# EAGLE library part SN74LS641-1 (library capstuff)
Octual Bus Trans.
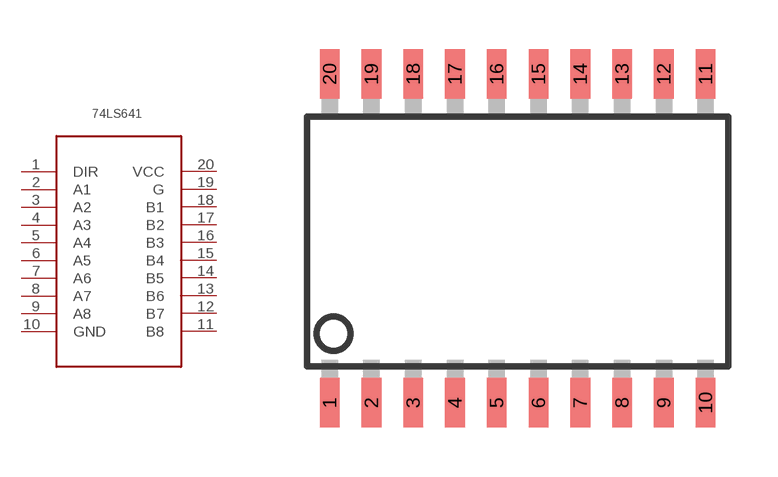
[diagram p0: symbol with the pads of SOIC20S; footprint SOIC20S]

Designator prefix U

## SN74LS641-1SC  [SOIC20S]
1  DIR
2  A1
3  A2
4  A3
5  A4
6  A5
7  A6
8  A7
9  A8
10  GND  pwr
11  B8
12  B7
13  B6
14  B5
15  B4
16  B3
17  B2
18  B1
19  G
20  VCC  pwr

## Footprint SOIC20S (pad centres in mm)
Wide Plastic Gull Wing Small Outline Package
smd 0.6 x 1.5: 1 -5.715,-5; 2 -4.445,-5; 3 -3.175,-5; 4 -1.905,-5; 5 -0.635,-5; 6 0.635,-5; 7 1.905,-5; 8 3.175,-5; 9 4.445,-5; 10 5.715,-5; 11 5.715,5; 12 4.445,5; 13 3.175,5; 14 1.905,5; 15 0.635,5; 16 -0.635,5; 17 -1.905,5; 18 -3.175,5; 19 -4.445,5; 20 -5.715,5